# Altium integrated library RFPC-SMA27-F.IntLib: 1 symbol
Pins are listed as number, name and electrical type; pins without a type are passive.

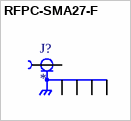
[diagram p0: symbol RFPC-SMA27-F]

## RFPC-SMA27-F
designator J?
MF: {'manufacturer': u'GCT (Gradconn)'}; MP: RFPC-SMA27-F; Package: None; Price: None; Value: *; Availability: Unavailable
footprint GRADCONN_RFPC-SMA27-F
pins: 1, G1 (power), G2 (power), G3 (power), G4 (power)